# Altium footprint library ESP32-U4WDH.PcbLib: 1 footprints
Each footprint in its own frame and in the unit in brackets; x right, y up, seen from the top. Pads: shape width x height; smd on the part's side, far side on the other; paste and mask are expansions set on the pad; w line width, h text height; cw(c..) or ccw(c..) is an arc to the next point about the centre after c.
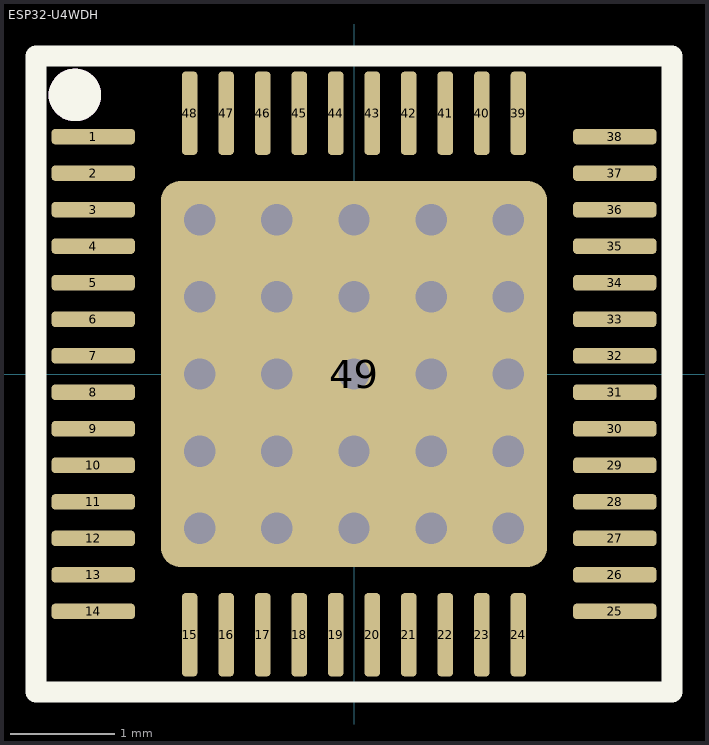
[diagram p0: the footprint, top view; thin cyan lines are the x and y axes]

## ESP32-U4WDH [mm]
pads (49):
  rrect50% 0.8x0.15 smd paste+0 mask+0.05: 1(-2.5,2.275) 2(-2.5,1.925) 3(-2.5,1.575) 4(-2.5,1.225) 5(-2.5,0.875) 6(-2.5,0.525) 7(-2.5,0.175) 8(-2.5,-0.175) 9(-2.5,-0.525) 10(-2.5,-0.875) 11(-2.5,-1.225) 12(-2.5,-1.575) 13(-2.5,-1.925) 14(-2.5,-2.275) 25(2.5,-2.275) 26(2.5,-1.925) 27(2.5,-1.575) 28(2.5,-1.225) 29(2.5,-0.875) 30(2.5,-0.525) 31(2.5,-0.175) 32(2.5,0.175) 33(2.5,0.525) 34(2.5,0.875) 35(2.5,1.225) 36(2.5,1.575) 37(2.5,1.925) 38(2.5,2.275)
  rrect50% 0.15x0.8 smd paste+0 mask+0.05: 15(-1.575,-2.5) 16(-1.225,-2.5) 17(-0.875,-2.5) 18(-0.525,-2.5) 19(-0.175,-2.5) 20(0.175,-2.5) 21(0.525,-2.5) 22(0.875,-2.5) 23(1.225,-2.5) 24(1.575,-2.5) 39(1.575,2.5) 40(1.225,2.5) 41(0.875,2.5) 42(0.525,2.5) 43(0.175,2.5) 44(-0.175,2.5) 45(-0.525,2.5) 46(-0.875,2.5) 47(-1.225,2.5) 48(-1.575,2.5)
  rrect10% 3.7x3.7 hole 0.3: 49(0,0)
via -0.74,0 diameter 0.7 hole 0.3
via -1.48,0 diameter 0.7 hole 0.3
via 0.74,0 diameter 0.7 hole 0.3
via 1.48,0 diameter 0.7 hole 0.3
via 0,-0.74 diameter 0.7 hole 0.3
via 0,-1.48 diameter 0.7 hole 0.3
via 0,0.74 diameter 0.7 hole 0.3
via 0,1.48 diameter 0.7 hole 0.3
via -0.74,0.74 diameter 0.7 hole 0.3
via -0.74,1.48 diameter 0.7 hole 0.3
via -1.48,0.74 diameter 0.7 hole 0.3
via -1.48,1.48 diameter 0.7 hole 0.3
via 0.74,0.74 diameter 0.7 hole 0.3
via 0.74,1.48 diameter 0.7 hole 0.3
via 1.48,0.74 diameter 0.7 hole 0.3
via 1.48,1.48 diameter 0.7 hole 0.3
via -1.48,-0.74 diameter 0.7 hole 0.3
via -1.48,-1.48 diameter 0.7 hole 0.3
via -0.74,-0.74 diameter 0.7 hole 0.3
via -0.74,-1.48 diameter 0.7 hole 0.3
via 0.74,-0.74 diameter 0.7 hole 0.3
via 0.74,-1.48 diameter 0.7 hole 0.3
via 1.48,-0.74 diameter 0.7 hole 0.3
via 1.48,-1.48 diameter 0.7 hole 0.3
Top Overlay:
  circle w0.254: c-2.675,2.675 r0.125
  lines w0.2: -3.05,-3.05 -3.05,3.05 3.05,3.05 3.05,-3.05 -3.05,-3.05
Top Assembly:
  circle w0.254: c-2.675,2.675 r0.125
  lines w0.1: -3.05,-3.05 3.05,-3.05 3.05,3.05 -3.05,3.05 -3.05,-3.05
  text "'.Designator'" at -1,-0.3 h0.7
3D body "ESP32-U4WDH.stp": height 0.9, standoff 0, extent -2.5,-2.5 2.5,2.5